# Altium schematic symbol library Schlib2.SchLib: 2 symbols
Pins are listed as number, name and electrical type; pins without a type are passive.

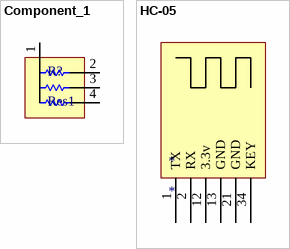
[diagram p0: symbols Component_1 to HC-05]

## Component_1
designator R?, comment Res1
footprint resistor Bus
footprint resistor Bus
pins: 1 2, 2 1, 3 1, 4 1

## HC-05
designator *
pins: 1 TX, 2 RX, 12 3.3v, 13 GND, 21 GND, 34 KEY